# EAGLE library part 10PIN (library ORBiT-con-CardEdge)
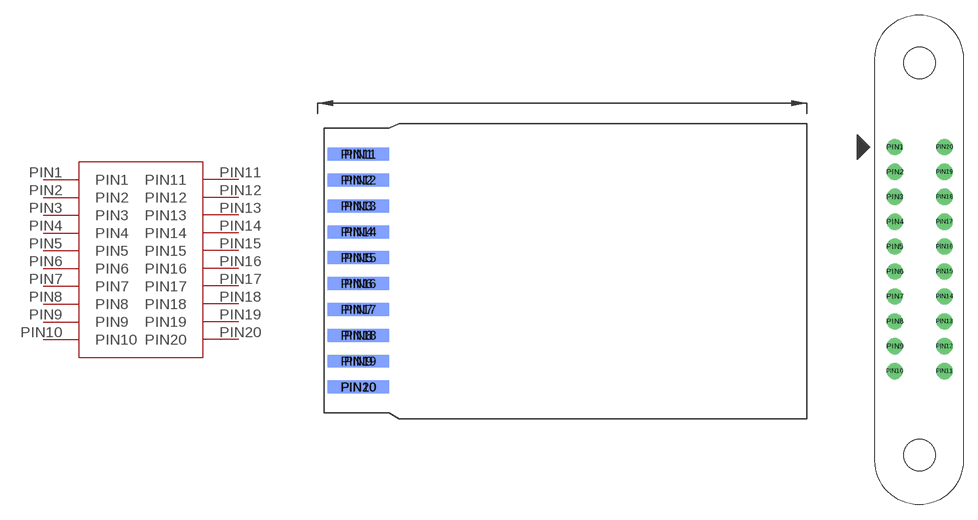
[diagram p0: symbol with the pads of 10PIN_BOARD; footprints 10PIN_BOARD, 10PIN_SRCEW]

Designator prefix -

## 10PIN10PIN_BOARD  [10PIN_BOARD]
PIN1  PIN1
PIN2  PIN2
PIN3  PIN3
PIN4  PIN4
PIN5  PIN5
PIN6  PIN6
PIN7  PIN7
PIN8  PIN8
PIN9  PIN9
PIN10  PIN10
PIN11  PIN11
PIN12  PIN12
PIN13  PIN13
PIN14  PIN14
PIN15  PIN15
PIN16  PIN16
PIN17  PIN17
PIN18  PIN18
PIN19  PIN19
PIN20  PIN20

## 10PIN10PIN_SCREW  [10PIN_SRCEW]
PIN1  PIN1
PIN2  PIN2
PIN3  PIN3
PIN4  PIN4
PIN5  PIN5
PIN6  PIN6
PIN7  PIN7
PIN8  PIN8
PIN9  PIN9
PIN10  PIN10
PIN11  PIN20
PIN12  PIN19
PIN13  PIN18
PIN14  PIN17
PIN15  PIN16
PIN16  PIN15
PIN17  PIN14
PIN18  PIN13
PIN19  PIN12
PIN20  PIN11

## Footprint 10PIN_BOARD (pad centres in mm)
smd 6 x 1.27: PIN1 0,0; PIN2 0,-2.54; PIN3 0,-5.08; PIN4 0,-7.62; PIN5 0,-10.16; PIN6 0,-12.7; PIN7 0,-15.24; PIN8 0,-17.78; PIN9 0,-20.32; PIN10 0,-22.86
smd 6 x 1.27 bottom: PIN11 0,0; PIN12 0,-2.54; PIN13 0,-5.08; PIN14 0,-7.62; PIN15 0,-10.16; PIN16 0,-12.7; PIN17 0,-15.24; PIN18 0,-17.78; PIN19 0,-20.32; PIN20 0,-22.86

## Footprint 10PIN_SRCEW (pad centres in mm)
drill 1.1: PIN1 0,0; PIN2 0,-2.54; PIN3 0,-5.08; PIN4 0,-7.62; PIN5 0,-10.16; PIN6 0,-12.7; PIN7 0,-15.24; PIN8 0,-17.78; PIN9 0,-20.32; PIN10 0,-22.86; PIN11 5.08,-22.86; PIN12 5.08,-20.32; PIN13 5.08,-17.78; PIN14 5.08,-15.24; PIN15 5.08,-12.7; PIN16 5.08,-10.16; PIN17 5.08,-7.62; PIN18 5.08,-5.08; PIN19 5.08,-2.54; PIN20 5.08,0
hole 3.18 at 2.54,8.575
hole 3.18 at 2.54,-31.435